# Altium integrated library Infineon_Power_Motor_Driver.IntLib: 100 symbols (part 1 of 7)
Pins are listed as number, name and electrical type; pins without a type are passive.

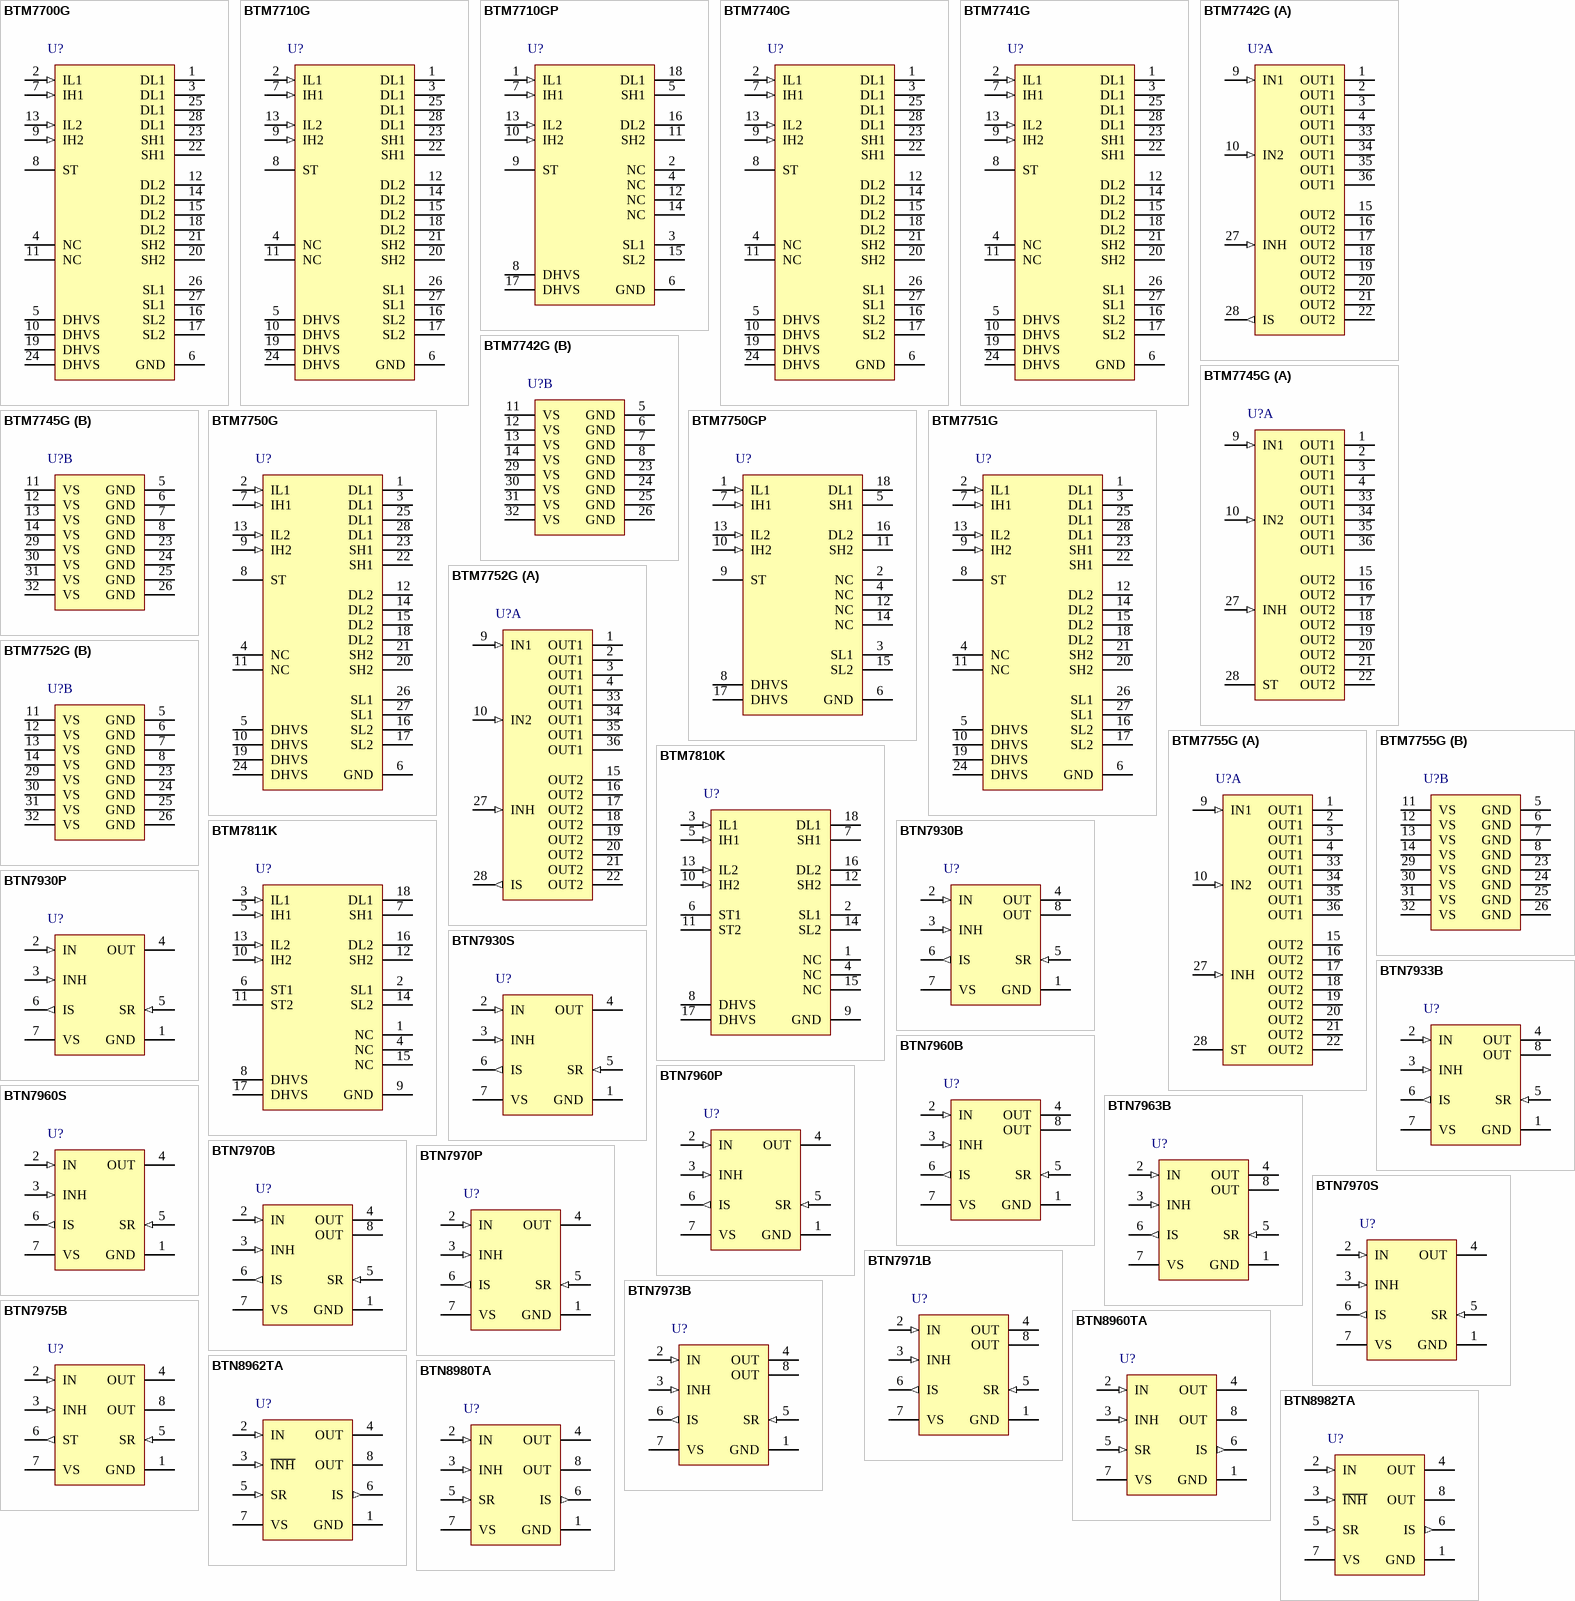
[diagram p0: symbols BTM7700G to BTN8982TA]

## BTM7700G
designator U?
TrilithIC, 4.8 to 42 V, -40 to 150 degC, PG-DSO-28-22, Reel, Green; Manufacturer: Infineon; PartNumber: BTM7700G; Green: TRUE; ID(lim): 9.5 A; ID(lim) (min): 5.5 A; Inhibit: FALSE; Iq (typ): 5 uA; Protect: OT, SC; RDS(on) (typ): 190 mOhm; VS (max): 42 V; DatasheetVersion: Rev. 1.0; PackageVersion: Jun-07; PackageReference: PG-DSO-28-22; PackageDescription: 28-Pin Plastic (Green) Dual Small Outline Package, 17.9 x 7.5 mm Body, 1.27 mm Pitch; Supplier 1: Mouser; Supplier Part Number 1: 726-BTM7700G; Supplier 2: Digi-Key; Supplier Part Number 2: BTM7700GTR-ND; Supplier 3: Digi-Key; Supplier Part Number 3: BTM7700GCT-ND; Supplier 4: Digi-Key; Supplier Part Number 4: BTM7700GDKR-ND; Group: TrilithIC; Halogen-free: TRUE; Operating Range: 4.8 to 42 V; Mounting Technology: Surface Mount; ComponentLink1Description: Manufacturer URL; ComponentLink1URL: http://www.infineon.com/; ComponentLink2Description: Datasheet; ComponentLink2URL: http://www.infineon.com/dgdl/BTM7700G_DS_10.pdf?folderId=db3a304412b407950112b408e8c90004&fileId=db3a304316f66ee80117642f65ef6a96&location=en.Products.Automotive_ICs.Motor_Drivers__Automotive_.Integrated_High_Current_Motor_Drivers__NovalithIC____Trilith_IC_.DATASHEET.BTM7700G_DS_10.pdf; ComponentLink3Description: Package Specification; ComponentLink3URL: http://www.infineon.com/dgdl/BTM7700G_DS_10.pdf?folderId=db3a304412b407950112b408e8c90004&fileId=db3a304316f66ee80117642f65ef6a96&sId=db3a30443d67b5ca013d81ef92182d8b
footprint INF-PG-DSO-28-22_N (SOP, 28-Leads, Body 17.9x7.5mm, Pitch 1.27mm, IPC Medium Density)
footprint INF-PG-DSO-28-22_L (SOP, 28-Leads, Body 17.9x7.5mm, Pitch 1.27mm, IPC High Density)
footprint INF-PG-DSO-28-22_M (SOP, 28-Leads, Body 17.9x7.5mm, Pitch 1.27mm, IPC Low Density)
pins: 1 DL1 (power) "Drain of low-side switch1, leadframe 1", 2 IL1 (in) "Analog input of low-side switch1", 3 DL1 (power) "Drain of low-side switch1, leadframe 1", 4 NC "not connected", 5 DHVS (power) "Drain of high-side switches and power supply voltage, leadframe 2", 6 GND (power) "Ground", 7 IH1 (in) "Digital input of high-side switch1", 8 ST (oc) "Status of high-side switches; open Drain output", 9 IH2 (in) "Digital input of high-side switch2", 10 DHVS (power) "Drain of high-side switches and power supply voltage, leadframe 2", 11 NC "not connected", 12 DL2 (power) "Drain of low-side switch2, leadframe 3", 13 IL2 (in) "Analog input of low-side switch2", 14 DL2 (power) "Drain of low-side switch2, leadframe 3", 15 DL2 (power) "Drain of low-side switch2, leadframe 3", 16 SL2 (power) "Source of low-side switch2", 17 SL2 (power) "Source of low-side switch2", 18 DL2 (power) "Drain of low-side switch2, leadframe 3", 19 DHVS (power) "Drain of high-side switches and power supply voltage, leadframe 2", 20 SH2 (power) "Source of high-side switch2", 21 SH2 (power) "Source of high-side switch2", 22 SH1 (power) "Source of high-side switch1", 23 SH1 (power) "Source of high-side switch1", 24 DHVS (power) "Drain of high-side switches and power supply voltage, leadframe 2", 25 DL1 (power) "Drain of low-side switch1, leadframe 1", 26 SL1 (power) "Source of low-side switch1", 27 SL1 (power) "Source of low-side switch1", 28 DL1 (power) "Drain of low-side switch1, leadframe 1"

## BTM7710G
designator U?
TrilithIC, 4.5 to 42 V, -40 to 150 degC, PG-DSO-28-22, Reel, Green; Manufacturer: Infineon; PartNumber: BTM7710G; Green: TRUE; ID(lim): 15 A; ID(lim) (min): 9 A; Inhibit: FALSE; Iq (typ): 5 uA; Protect: OT, SC; RDS(on) (typ): 110 mOhm; VS (max): 42 V; DatasheetVersion: Rev. 1.0; PackageVersion: Jun-07; PackageReference: PG-DSO-28-22; PackageDescription: 28-Pin Plastic (Green) Dual Small Outline Package, 17.9 x 7.5 mm Body, 1.27 mm Pitch; Supplier 1: Mouser; Supplier Part Number 1: 726-BTM7710G; Supplier 2: Newark; Supplier Part Number 2: 47W3369; Supplier 3: Farnell; Supplier Part Number 3: 2215537; Supplier 4: Digi-Key; Supplier Part Number 4: BTM7710GTR-ND; Supplier 5: Digi-Key; Supplier Part Number 5: BTM7710GCT-ND; Supplier 6: Digi-Key; Supplier Part Number 6: BTM7710GDKR-ND; Group: TrilithIC; Halogen-free: TRUE; Operating Range: 4.5 to 42 V; Mounting Technology: Surface Mount; ComponentLink1Description: Manufacturer URL; ComponentLink1URL: http://www.infineon.com/; ComponentLink2Description: Datasheet; ComponentLink2URL: http://www.infineon.com/dgdl/BTM7710G%5B1%5D.pdf?folderId=db3a3043156fd5730116144c5d101c30&fileId=db3a30431add1d95011aedf960bb0349&location=en.Products.Automotive_ICs.Motor_Drivers__Automotive_.Integrated_High_Current_Motor_Drivers__NovalithIC____Trilith_IC_.DATASHEET.BTM7710G[1].pdf; ComponentLink3Description: Package Specification; ComponentLink3URL: http://www.infineon.com/dgdl/BTM7700G_DS_10.pdf?folderId=db3a304412b407950112b408e8c90004&fileId=db3a304316f66ee80117642f65ef6a96&sId=db3a30443d67b5ca013d81ef92182d8b
footprint INF-PG-DSO-28-22_N (SOP, 28-Leads, Body 17.9x7.5mm, Pitch 1.27mm, IPC Medium Density)
footprint INF-PG-DSO-28-22_L (SOP, 28-Leads, Body 17.9x7.5mm, Pitch 1.27mm, IPC High Density)
footprint INF-PG-DSO-28-22_M (SOP, 28-Leads, Body 17.9x7.5mm, Pitch 1.27mm, IPC Low Density)
pins: 1 DL1 (power) "Drain of low-side switch1, leadframe 1", 2 IL1 (in) "Analog input of low-side switch1", 3 DL1 (power) "Drain of low-side switch1, leadframe 1", 4 NC "not connected", 5 DHVS (power) "Drain of high-side switches and power supply voltage, leadframe 2", 6 GND (power) "Ground", 7 IH1 (in) "Digital input of high-side switch1", 8 ST (oc) "Status of high-side switches; open Drain output", 9 IH2 (in) "Digital input of high-side switch2", 10 DHVS (power) "Drain of high-side switches and power supply voltage, leadframe 2", 11 NC "not connected", 12 DL2 (power) "Drain of low-side switch2, leadframe 3", 13 IL2 (in) "Analog input of low-side switch2", 14 DL2 (power) "Drain of low-side switch2, leadframe 3", 15 DL2 (power) "Drain of low-side switch2, leadframe 3", 16 SL2 (power) "Source of low-side switch2", 17 SL2 (power) "Source of low-side switch2", 18 DL2 (power) "Drain of low-side switch2, leadframe 3", 19 DHVS (power) "Drain of high-side switches and power supply voltage, leadframe 2", 20 SH2 (power) "Source of high-side switch2", 21 SH2 (power) "Source of high-side switch2", 22 SH1 (power) "Source of high-side switch1", 23 SH1 (power) "Source of high-side switch1", 24 DHVS (power) "Drain of high-side switches and power supply voltage, leadframe 2", 25 DL1 (power) "Drain of low-side switch1, leadframe 1", 26 SL1 (power) "Source of low-side switch1", 27 SL1 (power) "Source of low-side switch1", 28 DL1 (power) "Drain of low-side switch1, leadframe 1"

## BTM7710GP
designator U?
TrilithIC, 4.5 to 42 V, -40 to 110 degC, PG-TO263-15-1, Reel, Green; Manufacturer: Infineon; PartNumber: BTM7710GP; Green: TRUE; ID(lim): 15 A; Iq (typ): 5 uA; Protect: OT, Short circuit; RDS(on) (typ): 110 mOhm; VS (max): 42 V; DatasheetVersion: Rev. 1.0; PackageVersion: May-08; PackageReference: PG-TO263-15-1; PackageDescription: 15-Pin Plastic (Green) Transistor Single Outline Package, 21.6 x 9.25 mm Body, 1.4 mm Pitch; Supplier 1: Mouser; Supplier Part Number 1: 726-BTM7710GP; Supplier 2: Newark; Supplier Part Number 2: 47W3370; Supplier 3: Farnell; Supplier Part Number 3: 2215551; Supplier 4: Digi-Key; Supplier Part Number 4: BTM7710GPTR-ND; Supplier 5: Digi-Key; Supplier Part Number 5: BTM7710GPCT-ND; Supplier 6: Digi-Key; Supplier Part Number 6: BTM7710GPDKR-ND; Group: TrilithIC; Halogen-free: TRUE; Operating Range: 4.5 to 42 V; Mounting Technology: Surface Mount; ComponentLink1Description: Manufacturer URL; ComponentLink1URL: http://www.infineon.com/; ComponentLink2Description: Datasheet; ComponentLink2URL: http://www.infineon.com/dgdl/BTM7710GP_DS_10.pdf?folderId=db3a3043156fd5730116144c5d101c30&fileId=db3a30431ce5fb52011d2e5153631e92&location=en.Products.Automotive_ICs.Motor_Drivers__Automotive_.Integrated_High_Current_Motor_Drivers__NovalithIC____Trilith_IC_.DATASHEET.BTM7710GP_DS_10.pdf; ComponentLink3Description: Package Specification; ComponentLink3URL: http://www.infineon.com/dgdl/BTM7811K_DS_10.pdf?folderId=db3a3043156fd5730116144c5d101c30&fileId=db3a30431be39b97011bea1ad66c7ff6&sId=db3a30433d68e984013d7f42f8736279
footprint INF-PG-TO263-15-1_V (TO263, 15-Leads, Body 21.6x9.25mm, Pitch 1.4mm)
pins: 1 IL1 (in) "Analog input of low-side switch 1", 2 NC "Not connected", 3 SL1 (power) "Source of low-side switch 1", 4 NC "Not connected", 5 SH1 (power) "Source of high-side switch 1", 6 GND (power) "Ground of high-side switches", 7 IH1 (in) "Digital input of high-side switch 1", 8 DHVS (power) "Drain of high-side switches and power supply voltage", 9 ST (oc) "Status; open Drain output.", 10 IH2 (in) "Digital input of high-side switch 2", 11 SH2 (power) "Source of high-side switch 2", 12 NC "Not connected", 13 IL2 (in) "Analog input of low-side switch 2", 14 NC "Not connected", 15 SL2 (power) "Source of low-side switch 2", 16 DL2 (power) "Drain of low-side switch 2 Heat-Slug 3 or Heat-Disssipator.", 17 DHVS (power) "Drain of high-side switches and power supply voltage Heat-Slug 2 or Heat-Dissipator.", 18 DL1 (power) "Drain of low-side switch 1 Heat-Slug 1 or Heat-Dissipator"

## BTM7740G
designator U?
TrilithIC, 4.8 to 42 V, -40 to 150 degC, PG-DSO-28-22, Reel, Green; Manufacturer: Infineon; PartNumber: BTM7740G; Green: TRUE; ID(lim): 8 A; ID(lim) (min): 5 A; Inhibit: FALSE; Iq (typ): 5 uA; Protect: OT, SC; RDS(on) (typ): 210 mOhm; VS (max): 42 V; DatasheetVersion: Rev. 1.0; PackageVersion: Jun-07; PackageReference: PG-DSO-28-22; PackageDescription: 28-Pin Plastic (Green) Dual Small Outline Package, 17.9 x 7.5 mm Body, 1.27 mm Pitch; Supplier 1: Mouser; Supplier Part Number 1: 726-BTM7740G; Supplier 2: Newark; Supplier Part Number 2: 47W3371; Supplier 3: Farnell; Supplier Part Number 3: 2215544; Supplier 4: Digi-Key; Supplier Part Number 4: BTM7740GTR-ND; Supplier 5: Digi-Key; Supplier Part Number 5: BTM7740GCT-ND; Supplier 6: Digi-Key; Supplier Part Number 6: BTM7740GDKR-ND; Group: TrilithIC; Halogen-free: TRUE; Operating Range: 4.8 to 42 V; Mounting Technology: Surface Mount; ComponentLink1Description: Manufacturer URL; ComponentLink1URL: http://www.infineon.com/; ComponentLink2Description: Datasheet; ComponentLink2URL: http://www.infineon.com/dgdl/BTM7740G_DS_10.pdf?folderId=db3a3043156fd5730116144c5d101c30&fileId=db3a304316f66ee80117643262696aa3&location=en.Products.Automotive_ICs.Motor_Drivers__Automotive_.Integrated_High_Current_Motor_Drivers__NovalithIC____Trilith_IC_.DATASHEET.BTM7740G_DS_10.pdf; ComponentLink3Description: Package Specification; ComponentLink3URL: http://www.infineon.com/dgdl/BTM7700G_DS_10.pdf?folderId=db3a304412b407950112b408e8c90004&fileId=db3a304316f66ee80117642f65ef6a96&sId=db3a30443d67b5ca013d81ef92182d8b
footprint INF-PG-DSO-28-22_N (SOP, 28-Leads, Body 17.9x7.5mm, Pitch 1.27mm, IPC Medium Density)
footprint INF-PG-DSO-28-22_L (SOP, 28-Leads, Body 17.9x7.5mm, Pitch 1.27mm, IPC High Density)
footprint INF-PG-DSO-28-22_M (SOP, 28-Leads, Body 17.9x7.5mm, Pitch 1.27mm, IPC Low Density)
pins: 1 DL1 (power) "Drain of low-side switch1, leadframe 1", 2 IL1 (in) "Analog input of low-side switch1", 3 DL1 (power) "Drain of low-side switch1, leadframe 1", 4 NC "not connected", 5 DHVS (power) "Drain of high-side switches and power supply voltage, leadframe 2", 6 GND (power) "Ground", 7 IH1 (in) "Digital input of high-side switch1", 8 ST (oc) "Status of high-side switches; open Drain output", 9 IH2 (in) "Digital input of high-side switch2", 10 DHVS (power) "Drain of high-side switches and power supply voltage, leadframe 2", 11 NC "not connected", 12 DL2 (power) "Drain of low-side switch2, leadframe 3", 13 IL2 (in) "Analog input of low-side switch2", 14 DL2 (power) "Drain of low-side switch2, leadframe 3", 15 DL2 (power) "Drain of low-side switch2, leadframe 3", 16 SL2 (power) "Source of low-side switch2", 17 SL2 (power) "Source of low-side switch2", 18 DL2 (power) "Drain of low-side switch2, leadframe 3", 19 DHVS (power) "Drain of high-side switches and power supply voltage, leadframe 2", 20 SH2 (power) "Source of high-side switch2", 21 SH2 (power) "Source of high-side switch2", 22 SH1 (power) "Source of high-side switch1", 23 SH1 (power) "Source of high-side switch1", 24 DHVS (power) "Drain of high-side switches and power supply voltage, leadframe 2", 25 DL1 (power) "Drain of low-side switch1, leadframe 1", 26 SL1 (power) "Source of low-side switch1", 27 SL1 (power) "Source of low-side switch1", 28 DL1 (power) "Drain of low-side switch1, leadframe 1"

## BTM7741G
designator U?
TrilithIC, 4.8 to 42 V, -40 to 150 degC, PG-DSO-28-22, Reel, Green; Manufacturer: Infineon; PartNumber: BTM7741G; Green: TRUE; ID(lim): 10 A; ID(lim) (min): 6 A; Inhibit: FALSE; Iq (typ): 5 uA; Protect: OT, SC; RDS(on) (typ): 210 mOhm; VS (max): 42 V; DatasheetVersion: Rev. 1.0; PackageVersion: Jun-07; PackageReference: PG-DSO-28-22; PackageDescription: 28-Pin Plastic (Green) Dual Small Outline Package, 17.9 x 7.5 mm Body, 1.27 mm Pitch; Supplier 1: Mouser; Supplier Part Number 1: 726-BTM7741G; Supplier 2: Digi-Key; Supplier Part Number 2: BTM7741GTR-ND; Supplier 3: Digi-Key; Supplier Part Number 3: BTM7741GCT-ND; Supplier 4: Digi-Key; Supplier Part Number 4: BTM7741GDKR-ND; Group: TrilithIC; Halogen-free: TRUE; Operating Range: 4.8 to 42 V; Mounting Technology: Surface Mount; ComponentLink1Description: Manufacturer URL; ComponentLink1URL: http://www.infineon.com/; ComponentLink2Description: Datasheet; ComponentLink2URL: http://www.infineon.com/dgdl/BTM7741G_DS_10.pdf?folderId=db3a3043156fd5730116144c5d101c30&fileId=db3a30431be39b97011bea1404c77feb&location=en.Products.Automotive_ICs.Motor_Drivers__Automotive_.Integrated_High_Current_Motor_Drivers__NovalithIC____Trilith_IC_.DATASHEET.BTM7741G_DS_10.pdf; ComponentLink3Description: Package Specification; ComponentLink3URL: http://www.infineon.com/dgdl/BTM7700G_DS_10.pdf?folderId=db3a304412b407950112b408e8c90004&fileId=db3a304316f66ee80117642f65ef6a96&sId=db3a30443d67b5ca013d81ef92182d8b
footprint INF-PG-DSO-28-22_N (SOP, 28-Leads, Body 17.9x7.5mm, Pitch 1.27mm, IPC Medium Density)
footprint INF-PG-DSO-28-22_L (SOP, 28-Leads, Body 17.9x7.5mm, Pitch 1.27mm, IPC High Density)
footprint INF-PG-DSO-28-22_M (SOP, 28-Leads, Body 17.9x7.5mm, Pitch 1.27mm, IPC Low Density)
pins: 1 DL1 (power) "Drain of low-side switch1, leadframe 1", 2 IL1 (in) "Analog input of low-side switch1", 3 DL1 (power) "Drain of low-side switch1, leadframe 1", 4 NC "not connected", 5 DHVS (power) "Drain of high-side switches and power supply voltage, leadframe 2", 6 GND (power) "Ground", 7 IH1 (in) "Digital input of high-side switch1", 8 ST (oc) "Status of high-side switches; open Drain output", 9 IH2 (in) "Digital input of high-side switch2", 10 DHVS (power) "Drain of high-side switches and power supply voltage, leadframe 2", 11 NC "not connected", 12 DL2 (power) "Drain of low-side switch2, leadframe 3", 13 IL2 (in) "Analog input of low-side switch2", 14 DL2 (power) "Drain of low-side switch2, leadframe 3", 15 DL2 (power) "Drain of low-side switch2, leadframe 3", 16 SL2 (power) "Source of low-side switch2", 17 SL2 (power) "Source of low-side switch2", 18 DL2 (power) "Drain of low-side switch2, leadframe 3", 19 DHVS (power) "Drain of high-side switches and power supply voltage, leadframe 2", 20 SH2 (power) "Source of high-side switch2", 21 SH2 (power) "Source of high-side switch2", 22 SH1 (power) "Source of high-side switch1", 23 SH1 (power) "Source of high-side switch1", 24 DHVS (power) "Drain of high-side switches and power supply voltage, leadframe 2", 25 DL1 (power) "Drain of low-side switch1, leadframe 1", 26 SL1 (power) "Source of low-side switch1", 27 SL1 (power) "Source of low-side switch1", 28 DL1 (power) "Drain of low-side switch1, leadframe 1"

## BTM7742G
designator U?
High Current H-Bridge Trilith IC 3G, 5.5 to 28 V, -40 to 150 degC, PG-DSO-36-29, Reel, Green; Manufacturer: Infineon; PartNumber: BTM7742G; Green: TRUE; ID(lim): 12 A; ID(lim) (min): 6 A; Iq (typ): 5 uA; Protect: OV, UV, OT, OC; RDS(on) (typ): 250 mOhm; VS (max): 45 V; DatasheetVersion: Rev. 1.0; PackageVersion: May-10; PackageReference: PG-DSO-36-29; PackageDescription: 36-Pin Plastic (Green) Dual Small Outline Package, 12.7 x 7.5 mm Body, 0.65 mm Pitch; Supplier 1: Mouser; Supplier Part Number 1: 726-BTM7742G; Supplier 2: Digi-Key; Supplier Part Number 2: BTM7742G-ND; Group: TrilithIC; Halogen-free: TRUE; Inhibit: TRUE; Operating Range: 5.5 to 28 V; Mounting Technology: Surface Mount; ComponentLink1Description: Manufacturer URL; ComponentLink1URL: http://www.infineon.com/; ComponentLink2Description: Datasheet; ComponentLink2URL: http://www.infineon.com/dgdl/BTM7742G_DS_10.pdf?folderId=db3a3043156fd5730116144c5d101c30&fileId=db3a30432f69f146012f78654c2d2e97&location=en.Products.Automotive_ICs.Motor_Drivers__Automotive_.Integrated_High_Current_Motor_Drivers__NovalithIC____Trilith_IC_.DATASHEET.BTM7742G_DS_10.pdf; ComponentLink3Description: Package Specification; ComponentLink3URL: http://www.infineon.com/dgdl/BTM7752G-Data-Sheet-20.pdf?folderId=db3a3043156fd5730116144c5d101c30&fileId=db3a30432e1525b3012e24c6ed042357&sId=db3a30433d68e984013d7f683b5c74f9
footprint INF-PG-DSO-36-29_N (SOP, 36-Leads, Body 12.7x7.5mm, Pitch 0.65mm, IPC Medium Density)
footprint INF-PG-DSO-36-29_L (SOP, 36-Leads, Body 12.7x7.5mm, Pitch 0.65mm, IPC High Density)
footprint INF-PG-DSO-36-29_M (SOP, 36-Leads, Body 12.7x7.5mm, Pitch 0.65mm, IPC Low Density)
part A pins: 1 OUT1 (power) "Output of first half bridge", 2 OUT1 (power) "Output of first half bridge", 3 OUT1 (power) "Output of first half bridge", 4 OUT1 (power) "Output of first half bridge", 9 IN1 (in) "Input of first half bridge", 10 IN2 (in) "Input of second half bridge", 15 OUT2 (power) "Output of second half bridge", 16 OUT2 (power) "Output of second half bridge", 17 OUT2 (power) "Output of second half bridge", 18 OUT2 (power) "Output of second half bridge", 19 OUT2 (power) "Output of second half bridge", 20 OUT2 (power) "Output of second half bridge", 21 OUT2 (power) "Output of second half bridge", 22 OUT2 (power) "Output of second half bridge", 27 INH (in) "Inhibit pin, to set device in sleep/stand-by mode", 28 IS (out) "Current sense and error signal", 33 OUT1 (power) "Output of first half bridge", 34 OUT1 (power) "Output of first half bridge", 35 OUT1 (power) "Output of first half bridge", 36 OUT1 (power) "Output of first half bridge"
part B pins: 5 GND (power) "Ground", 6 GND (power) "Ground", 7 GND (power) "Ground", 8 GND (power) "Ground", 11 VS (power) "Supply, all pins to be connected and shorted externally", 12 VS (power) "Supply, all pins to be connected and shorted externally", 13 VS (power) "Supply, all pins to be connected and shorted externally", 14 VS (power) "Supply, all pins to be connected and shorted externally", 23 GND (power) "Ground", 24 GND (power) "Ground", 25 GND (power) "Ground", 26 GND (power) "Ground", 29 VS (power) "Supply, all pins to be connected and shorted externally", 30 VS (power) "Supply, all pins to be connected and shorted externally", 31 VS (power) "Supply, all pins to be connected and shorted externally", 32 VS (power) "Supply, all pins to be connected and shorted externally"

## BTM7745G
designator U?
High Current H-Bridge Trilith IC 3G, 5.5 to 28 V, -40 to 150 degC, PG-DSO-36-29, Reel, Green; Manufacturer: Infineon; PartNumber: BTM7745G; Green: TRUE; ID(lim): 12 A; ID(lim) (min): 6 A; Iq (typ): 5 uA; Protect: OV, UV, OT, OC; RDS(on) (typ): 250 mOhm; VS (max): 45 V; DatasheetVersion: Rev. 1.0; PackageVersion: May-10; PackageReference: PG-DSO-36-29; PackageDescription: 36-Pin Plastic (Green) Dual Small Outline Package, 12.7 x 7.5 mm Body, 0.65 mm Pitch; Supplier 1: Mouser; Supplier Part Number 1: 726-BTM7745G; Supplier 2: Digi-Key; Supplier Part Number 2: BTM7745G-ND; Group: TrilithIC; Halogen-free: TRUE; Inhibit: TRUE; Operating Range: 5.5 to 28 V; Mounting Technology: Surface Mount; ComponentLink1Description: Manufacturer URL; ComponentLink1URL: http://www.infineon.com/; ComponentLink2Description: Datasheet; ComponentLink2URL: http://www.infineon.com/dgdl/BTM7745G_DS_10.pdf?folderId=db3a3043156fd5730116144c5d101c30&fileId=db3a30432f69f146012f786bb37f2ea7&location=en.Products.Automotive_ICs.Motor_Drivers__Automotive_.Integrated_High_Current_Motor_Drivers__NovalithIC____Trilith_IC_.DATASHEET.BTM7745G_DS_10.pdf; ComponentLink3Description: Package Specification; ComponentLink3URL: http://www.infineon.com/dgdl/BTM7752G-Data-Sheet-20.pdf?folderId=db3a3043156fd5730116144c5d101c30&fileId=db3a30432e1525b3012e24c6ed042357&sId=db3a30433d68e984013d7f683b5c74f9
footprint INF-PG-DSO-36-29_N (SOP, 36-Leads, Body 12.7x7.5mm, Pitch 0.65mm, IPC Medium Density)
footprint INF-PG-DSO-36-29_L (SOP, 36-Leads, Body 12.7x7.5mm, Pitch 0.65mm, IPC High Density)
footprint INF-PG-DSO-36-29_M (SOP, 36-Leads, Body 12.7x7.5mm, Pitch 0.65mm, IPC Low Density)
part A pins: 1 OUT1 (power) "Output of first half bridge", 2 OUT1 (power) "Output of first half bridge", 3 OUT1 (power) "Output of first half bridge", 4 OUT1 (power) "Output of first half bridge", 9 IN1 (in) "Input of first half bridge", 10 IN2 (in) "Input of second half bridge", 15 OUT2 (power) "Output of second half bridge", 16 OUT2 (power) "Output of second half bridge", 17 OUT2 (power) "Output of second half bridge", 18 OUT2 (power) "Output of second half bridge", 19 OUT2 (power) "Output of second half bridge", 20 OUT2 (power) "Output of second half bridge", 21 OUT2 (power) "Output of second half bridge", 22 OUT2 (power) "Output of second half bridge", 27 INH (in) "Inhibit pin, to set device in sleep/stand-by mode", 28 ST (oc) "Status signal, open drain output", 33 OUT1 (power) "Output of first half bridge", 34 OUT1 (power) "Output of first half bridge", 35 OUT1 (power) "Output of first half bridge", 36 OUT1 (power) "Output of first half bridge"
part B pins: 5 GND (power) "Ground", 6 GND (power) "Ground", 7 GND (power) "Ground", 8 GND (power) "Ground", 11 VS (power) "Supply, all pins to be connected and shorted externally", 12 VS (power) "Supply, all pins to be connected and shorted externally", 13 VS (power) "Supply, all pins to be connected and shorted externally", 14 VS (power) "Supply, all pins to be connected and shorted externally", 23 GND (power) "Ground", 24 GND (power) "Ground", 25 GND (power) "Ground", 26 GND (power) "Ground", 29 VS (power) "Supply, all pins to be connected and shorted externally", 30 VS (power) "Supply, all pins to be connected and shorted externally", 31 VS (power) "Supply, all pins to be connected and shorted externally", 32 VS (power) "Supply, all pins to be connected and shorted externally"

## BTM7750G
designator U?
TrilithIC, 4.8 to 42 V, -40 to 150 degC, PG-DSO-28-22, Reel, Green; Manufacturer: Infineon; PartNumber: BTM7750G; Green: TRUE; ID(lim): 12 A; ID(lim) (min): 7 A; Inhibit: FALSE; Iq (typ): 5 uA; Protect: OT, SC; RDS(on) (typ): 115 mOhm; VS (max): 42 V; DatasheetVersion: Rev. 1.0; PackageVersion: Jun-07; PackageReference: PG-DSO-28-22; PackageDescription: 28-Pin Plastic (Green) Dual Small Outline Package, 17.9 x 7.5 mm Body, 1.27 mm Pitch; Supplier 1: Mouser; Supplier Part Number 1: 726-BTM7750G; Supplier 2: Newark; Supplier Part Number 2: 47W3372; Supplier 3: Farnell; Supplier Part Number 3: 2215534; Supplier 4: Digi-Key; Supplier Part Number 4: BTM7750GTR-ND; Supplier 5: Digi-Key; Supplier Part Number 5: BTM7750GCT-ND; Supplier 6: Digi-Key; Supplier Part Number 6: BTM7750GDKR-ND; Group: TrilithIC; Halogen-free: TRUE; Operating Range: 4.8 to 42 V; Mounting Technology: Surface Mount; ComponentLink1Description: Manufacturer URL; ComponentLink1URL: http://www.infineon.com/; ComponentLink2Description: Datasheet; ComponentLink2URL: http://www.infineon.com/dgdl/BTM7750G_DS_10.pdf?folderId=db3a3043156fd5730116144c5d101c30&fileId=db3a304316f66ee80117644e21d86ab0&location=en.Products.Automotive_ICs.Motor_Drivers__Automotive_.Integrated_High_Current_Motor_Drivers__NovalithIC____Trilith_IC_.DATASHEET.BTM7750G_DS_10.pdf; ComponentLink3Description: Package Specification; ComponentLink3URL: http://www.infineon.com/dgdl/BTM7700G_DS_10.pdf?folderId=db3a304412b407950112b408e8c90004&fileId=db3a304316f66ee80117642f65ef6a96&sId=db3a30443d67b5ca013d81ef92182d8b
footprint INF-PG-DSO-28-22_N (SOP, 28-Leads, Body 17.9x7.5mm, Pitch 1.27mm, IPC Medium Density)
footprint INF-PG-DSO-28-22_L (SOP, 28-Leads, Body 17.9x7.5mm, Pitch 1.27mm, IPC High Density)
footprint INF-PG-DSO-28-22_M (SOP, 28-Leads, Body 17.9x7.5mm, Pitch 1.27mm, IPC Low Density)
pins: 1 DL1 (power) "Drain of low-side switch1, leadframe 1", 2 IL1 (in) "Analog input of low-side switch1", 3 DL1 (power) "Drain of low-side switch1, leadframe 1", 4 NC "not connected", 5 DHVS (power) "Drain of high-side switches and power supply voltage, leadframe 2", 6 GND (power) "Ground", 7 IH1 (in) "Digital input of high-side switch1", 8 ST (oc) "Status of high-side switches; open Drain output", 9 IH2 (in) "Digital input of high-side switch2", 10 DHVS (power) "Drain of high-side switches and power supply voltage, leadframe 2", 11 NC "not connected", 12 DL2 (power) "Drain of low-side switch2, leadframe 3", 13 IL2 (in) "Analog input of low-side switch2", 14 DL2 (power) "Drain of low-side switch2, leadframe 3", 15 DL2 (power) "Drain of low-side switch2, leadframe 3", 16 SL2 (power) "Source of low-side switch2", 17 SL2 (power) "Source of low-side switch2", 18 DL2 (power) "Drain of low-side switch2, leadframe 3", 19 DHVS (power) "Drain of high-side switches and power supply voltage, leadframe 2", 20 SH2 (power) "Source of high-side switch2", 21 SH2 (power) "Source of high-side switch2", 22 SH1 (power) "Source of high-side switch1", 23 SH1 (power) "Source of high-side switch1", 24 DHVS (power) "Drain of high-side switches and power supply voltage, leadframe 2", 25 DL1 (power) "Drain of low-side switch1, leadframe 1", 26 SL1 (power) "Source of low-side switch1", 27 SL1 (power) "Source of low-side switch1", 28 DL1 (power) "Drain of low-side switch1, leadframe 1"

## BTM7750GP
designator U?
TrilithIC, 4.5 to 42 V, -40 to 110 degC, P-TO263-15-1, Reel, Green; Manufacturer: Infineon; PartNumber: BTM7750GP; Green: TRUE; ID(lim): 12 A; ID(lim) (min): 8 A; Inhibit: FALSE; Iq (typ): 5 uA; Protect: OT, SC; RDS(on) (typ): 115 mOhm; VS (max): 42 V; DatasheetVersion: Rev. 1.0; PackageVersion: Mar-03; PackageReference: P-TO263-15-1; PackageDescription: 15-Pin Plastic Transistor Single Outline Package, 21.6 x 9.25 mm Body, 1.4 mm Pitch; Supplier 1: Mouser; Supplier Part Number 1: 726-BTM7750GP; Supplier 2: Newark; Supplier Part Number 2: 47W3373; Supplier 3: Farnell; Supplier Part Number 3: 2215538; Supplier 4: Digi-Key; Supplier Part Number 4: BTM7750GPTR-ND; Supplier 5: Digi-Key; Supplier Part Number 5: BTM7750GPCT-ND; Supplier 6: Digi-Key; Supplier Part Number 6: BTM7750GPDKR-ND; Group: TrilithIC; Halogen-free: TRUE; Operating Range: 4.5 to 42 V; Mounting Technology: Surface Mount; ComponentLink1Description: Manufacturer URL; ComponentLink1URL: http://www.infineon.com/; ComponentLink2Description: Datasheet; ComponentLink2URL: http://www.infineon.com/dgdl/BTM7750GP_DS_10.pdf?folderId=db3a3043156fd5730116144c5d101c30&fileId=db3a30431ce5fb52011d4dc8b8cc2e43&location=en.Products.Automotive_ICs.Motor_Drivers__Automotive_.Integrated_High_Current_Motor_Drivers__NovalithIC____Trilith_IC_.DATASHEET.BTM7750GP_DS_10.pdf; ComponentLink3Description: Package Specification; ComponentLink3URL: http://www.infineon.com/dgdl/BTS7810K_11-03-2003.pdf?folderId=db3a304412b407950112b439834a6e16&fileId=db3a304412b407950112b43983d56e17&sId=db3a30433db1c06a013db463a2ae1455
footprint INF-P-TO263-15-1_V (TO263, 15-Leads, Body 21.6x9.25mm, Pitch 1.4mm)
pins: 1 IL1 (in) "Analog input of low-side switch 1", 2 NC "Not connected", 3 SL1 (power) "Source of low-side switch 1", 4 NC "Not connected", 5 SH1 (power) "Source of high-side switch 1", 6 GND (power) "Ground of high-side switches", 7 IH1 (in) "Digital input of high-side switch 1", 8 DHVS (power) "Drain of high-side switches and power supply voltage", 9 ST (oc) "Status; open Drain output.", 10 IH2 (in) "Digital input of high-side switch 2", 11 SH2 (power) "Source of high-side switch 2", 12 NC "Not connected", 13 IL2 (in) "Analog input of low-side switch 2", 14 NC "Not connected", 15 SL2 (power) "Source of low-side switch 2", 16 DL2 (power) "Drain of low-side switch 2 Heat-Slug 3 or Heat-Disssipator.", 17 DHVS (power) "Drain of high-side switches and power supply voltage Heat-Slug 2 or Heat-Dissipator.", 18 DL1 (power) "Drain of low-side switch 1 Heat-Slug 1 or Heat-Dissipator"

## BTM7751G
designator U?
TrilithIC, 4.8 to 42 V, -40 to 150 degC, PG-DSO-28-22, Reel, Green; Manufacturer: Infineon; PartNumber: BTM7751G; Green: TRUE; ID(lim): 14 A; ID(lim) (min): 8 A; Inhibit: FALSE; Iq (typ): 5 uA; Protect: OT, SC; RDS(on) (typ): 125 mOhm; VS (max): 42 V; DatasheetVersion: Rev. 1.0; PackageVersion: Jun-07; PackageReference: PG-DSO-28-22; PackageDescription: 28-Pin Plastic (Green) Dual Small Outline Package, 17.9 x 7.5 mm Body, 1.27 mm Pitch; Supplier 1: Mouser; Supplier Part Number 1: 726-BTM7751G; Supplier 2: Newark; Supplier Part Number 2: 47W3374; Supplier 3: Farnell; Supplier Part Number 3: 2215535; Supplier 4: Digi-Key; Supplier Part Number 4: BTM7751GTR-ND; Supplier 5: Digi-Key; Supplier Part Number 5: BTM7751GCT-ND; Supplier 6: Digi-Key; Supplier Part Number 6: BTM7751GDKR-ND; Group: TrilithIC; Halogen-free: TRUE; Operating Range: 4.8 to 42 V; Mounting Technology: Surface Mount; ComponentLink1Description: Manufacturer URL; ComponentLink1URL: http://www.infineon.com/; ComponentLink2Description: Datasheet; ComponentLink2URL: http://www.infineon.com/dgdl/BTM7751G_DS_10.pdf?folderId=db3a3043156fd5730116144c5d101c30&fileId=db3a30431be39b97011bea19d1f07ff3&location=en.Products.Automotive_ICs.Motor_Drivers__Automotive_.Integrated_High_Current_Motor_Drivers__NovalithIC____Trilith_IC_.DATASHEET.BTM7751G_DS_10.pdf; ComponentLink3Description: Package Specification; ComponentLink3URL: http://www.infineon.com/dgdl/BTM7700G_DS_10.pdf?folderId=db3a304412b407950112b408e8c90004&fileId=db3a304316f66ee80117642f65ef6a96&sId=db3a30443d67b5ca013d81ef92182d8b
footprint INF-PG-DSO-28-22_N (SOP, 28-Leads, Body 17.9x7.5mm, Pitch 1.27mm, IPC Medium Density)
footprint INF-PG-DSO-28-22_L (SOP, 28-Leads, Body 17.9x7.5mm, Pitch 1.27mm, IPC High Density)
footprint INF-PG-DSO-28-22_M (SOP, 28-Leads, Body 17.9x7.5mm, Pitch 1.27mm, IPC Low Density)
pins: 1 DL1 (power) "Drain of low-side switch1, leadframe 1", 2 IL1 (in) "Analog input of low-side switch1", 3 DL1 (power) "Drain of low-side switch1, leadframe 1", 4 NC "not connected", 5 DHVS (power) "Drain of high-side switches and power supply voltage, leadframe 2", 6 GND (power) "Ground", 7 IH1 (in) "Digital input of high-side switch1", 8 ST (oc) "Status of high-side switches; open Drain output", 9 IH2 (in) "Digital input of high-side switch2", 10 DHVS (power) "Drain of high-side switches and power supply voltage, leadframe 2", 11 NC "not connected", 12 DL2 (power) "Drain of low-side switch2, leadframe 3", 13 IL2 (in) "Analog input of low-side switch2", 14 DL2 (power) "Drain of low-side switch2, leadframe 3", 15 DL2 (power) "Drain of low-side switch2, leadframe 3", 16 SL2 (power) "Source of low-side switch2", 17 SL2 (power) "Source of low-side switch2", 18 DL2 (power) "Drain of low-side switch2, leadframe 3", 19 DHVS (power) "Drain of high-side switches and power supply voltage, leadframe 2", 20 SH2 (power) "Source of high-side switch2", 21 SH2 (power) "Source of high-side switch2", 22 SH1 (power) "Source of high-side switch1", 23 SH1 (power) "Source of high-side switch1", 24 DHVS (power) "Drain of high-side switches and power supply voltage, leadframe 2", 25 DL1 (power) "Drain of low-side switch1, leadframe 1", 26 SL1 (power) "Source of low-side switch1", 27 SL1 (power) "Source of low-side switch1", 28 DL1 (power) "Drain of low-side switch1, leadframe 1"

## BTM7752G
designator U?
High Current H-Bridge Trilith IC 3G, 5.5 to 28 V, -40 to 150 degC, PG-DSO-36-29, Reel, Green; Manufacturer: Infineon; PartNumber: BTM7752G; Green: TRUE; ID(lim): 12 A; ID(lim) (min): 8 A; Iq (typ): 5 uA; Protect: OV, UV, OT, OC; RDS(on) (typ): 150 mOhm; VS (max): 45 V; DatasheetVersion: Rev. 2.0; PackageVersion: May-10; PackageReference: PG-DSO-36-29; PackageDescription: 36-Pin Plastic (Green) Dual Small Outline Package, 12.7 x 7.5 mm Body, 0.65 mm Pitch; Supplier 1: Mouser; Supplier Part Number 1: 726-BTM7752G; Supplier 2: Newark; Supplier Part Number 2: 47W3375; Supplier 3: Farnell; Supplier Part Number 3: 2215539; Supplier 4: Digi-Key; Supplier Part Number 4: BTM7752GTR-ND; Supplier 5: Digi-Key; Supplier Part Number 5: BTM7752GCT-ND; Supplier 6: Digi-Key; Supplier Part Number 6: BTM7752GDKR-ND; Group: TrilithIC; Halogen-free: TRUE; Inhibit: TRUE; Operating Range: 5.5 to 28 V; Mounting Technology: Surface Mount; ComponentLink1Description: Manufacturer URL; ComponentLink1URL: http://www.infineon.com/; ComponentLink2Description: Datasheet; ComponentLink2URL: http://www.infineon.com/dgdl/BTM7752G-Data-Sheet-20.pdf?folderId=db3a3043156fd5730116144c5d101c30&fileId=db3a30432e1525b3012e24c6ed042357&location=en.Products.Automotive_ICs.Motor_Drivers__Automotive_.Integrated_High_Current_Motor_Drivers__NovalithIC____Trilith_IC_.DATASHEET.BTM7752G-Data-Sheet-20.pdf; ComponentLink3Description: Package Specification; ComponentLink3URL: http://www.infineon.com/dgdl/BTM7752G-Data-Sheet-20.pdf?folderId=db3a3043156fd5730116144c5d101c30&fileId=db3a30432e1525b3012e24c6ed042357&sId=db3a30433d68e984013d7f683b5c74f9
footprint INF-PG-DSO-36-29_N (SOP, 36-Leads, Body 12.7x7.5mm, Pitch 0.65mm, IPC Medium Density)
footprint INF-PG-DSO-36-29_L (SOP, 36-Leads, Body 12.7x7.5mm, Pitch 0.65mm, IPC High Density)
footprint INF-PG-DSO-36-29_M (SOP, 36-Leads, Body 12.7x7.5mm, Pitch 0.65mm, IPC Low Density)
part A pins: 1 OUT1 (power) "Output of first half bridge", 2 OUT1 (power) "Output of first half bridge", 3 OUT1 (power) "Output of first half bridge", 4 OUT1 (power) "Output of first half bridge", 9 IN1 (in) "Input of first half bridge", 10 IN2 (in) "Input of second half bridge", 15 OUT2 (power) "Output of second half bridge", 16 OUT2 (power) "Output of second half bridge", 17 OUT2 (power) "Output of second half bridge", 18 OUT2 (power) "Output of second half bridge", 19 OUT2 (power) "Output of second half bridge", 20 OUT2 (power) "Output of second half bridge", 21 OUT2 (power) "Output of second half bridge", 22 OUT2 (power) "Output of second half bridge", 27 INH (in) "Inhibit pin, to set device in sleep/stand-by mode", 28 IS (out) "Current sense and error signal", 33 OUT1 (power) "Output of first half bridge", 34 OUT1 (power) "Output of first half bridge", 35 OUT1 (power) "Output of first half bridge", 36 OUT1 (power) "Output of first half bridge"
part B pins: 5 GND (power) "Ground", 6 GND (power) "Ground", 7 GND (power) "Ground", 8 GND (power) "Ground", 11 VS (power) "Supply, all pins to be connected and shorted externally", 12 VS (power) "Supply, all pins to be connected and shorted externally", 13 VS (power) "Supply, all pins to be connected and shorted externally", 14 VS (power) "Supply, all pins to be connected and shorted externally", 23 GND (power) "Ground", 24 GND (power) "Ground", 25 GND (power) "Ground", 26 GND (power) "Ground", 29 VS (power) "Supply, all pins to be connected and shorted externally", 30 VS (power) "Supply, all pins to be connected and shorted externally", 31 VS (power) "Supply, all pins to be connected and shorted externally", 32 VS (power) "Supply, all pins to be connected and shorted externally"

## BTM7755G
designator U?
High Current H-Bridge Trilith IC 3G, 5.5 to 28 V, -40 to 150 degC, PG-DSO-36-29, Reel, Green; Manufacturer: Infineon; PartNumber: BTM7755G; Green: TRUE; ID(lim): 12 A; ID(lim) (min): 8 A; Iq (typ): 5 uA; Protect: OV, UV, OT, OC; RDS(on) (typ): 150 mOhm; VS (max): 45 V; DatasheetVersion: Rev. 2.0; PackageVersion: May-10; PackageReference: PG-DSO-36-29; PackageDescription: 36-Pin Plastic (Green) Dual Small Outline Package, 12.7 x 7.5 mm Body, 0.65 mm Pitch; Supplier 1: Mouser; Supplier Part Number 1: 726-BTM7755G; Supplier 2: Digi-Key; Supplier Part Number 2: BTM7755G-ND; Group: TrilithIC; Halogen-free: TRUE; Inhibit: TRUE; Operating Range: 5.5 to 28 V; Mounting Technology: Surface Mount; ComponentLink1Description: Manufacturer URL; ComponentLink1URL: http://www.infineon.com/; ComponentLink2Description: Datasheet; ComponentLink2URL: http://www.infineon.com/dgdl/BTM7755G-Data-Sheet-20.pdf?folderId=db3a3043156fd5730116144c5d101c30&fileId=db3a30432e1525b3012e24dd6d0d2371&location=en.Products.Automotive_ICs.Motor_Drivers__Automotive_.Integrated_High_Current_Motor_Drivers__NovalithIC____Trilith_IC_.DATASHEET.BTM7755G-Data-Sheet-20.pdf; ComponentLink3Description: Package Specification; ComponentLink3URL: http://www.infineon.com/dgdl/BTM7752G-Data-Sheet-20.pdf?folderId=db3a3043156fd5730116144c5d101c30&fileId=db3a30432e1525b3012e24c6ed042357&sId=db3a30433d68e984013d7f683b5c74f9
footprint INF-PG-DSO-36-29_N (SOP, 36-Leads, Body 12.7x7.5mm, Pitch 0.65mm, IPC Medium Density)
footprint INF-PG-DSO-36-29_L (SOP, 36-Leads, Body 12.7x7.5mm, Pitch 0.65mm, IPC High Density)
footprint INF-PG-DSO-36-29_M (SOP, 36-Leads, Body 12.7x7.5mm, Pitch 0.65mm, IPC Low Density)
part A pins: 1 OUT1 (power) "Output of first half bridge", 2 OUT1 (power) "Output of first half bridge", 3 OUT1 (power) "Output of first half bridge", 4 OUT1 (power) "Output of first half bridge", 9 IN1 (in) "Input of first half bridge", 10 IN2 (in) "Input of second half bridge", 15 OUT2 (power) "Output of second half bridge", 16 OUT2 (power) "Output of second half bridge", 17 OUT2 (power) "Output of second half bridge", 18 OUT2 (power) "Output of second half bridge", 19 OUT2 (power) "Output of second half bridge", 20 OUT2 (power) "Output of second half bridge", 21 OUT2 (power) "Output of second half bridge", 22 OUT2 (power) "Output of second half bridge", 27 INH (in) "Inhibit pin, to set device in sleep/stand-by mode", 28 ST (oc) "Status signal, open drain output", 33 OUT1 (power) "Output of first half bridge", 34 OUT1 (power) "Output of first half bridge", 35 OUT1 (power) "Output of first half bridge", 36 OUT1 (power) "Output of first half bridge"
part B pins: 5 GND (power) "Ground", 6 GND (power) "Ground", 7 GND (power) "Ground", 8 GND (power) "Ground", 11 VS (power) "Supply, all pins to be connected and shorted externally", 12 VS (power) "Supply, all pins to be connected and shorted externally", 13 VS (power) "Supply, all pins to be connected and shorted externally", 14 VS (power) "Supply, all pins to be connected and shorted externally", 23 GND (power) "Ground", 24 GND (power) "Ground", 25 GND (power) "Ground", 26 GND (power) "Ground", 29 VS (power) "Supply, all pins to be connected and shorted externally", 30 VS (power) "Supply, all pins to be connected and shorted externally", 31 VS (power) "Supply, all pins to be connected and shorted externally", 32 VS (power) "Supply, all pins to be connected and shorted externally"

## BTM7810K
designator U?
TrilithIC, 5 to 42 V, -40 to 110 degC, PG-TO263-15-1, Reel, Green; Manufacturer: Infineon; PartNumber: BTM7810K; Green: TRUE; ID(lim): 42 A; ID(lim) (min): 27 A; Inhibit: FALSE; Iq (typ): 4 uA; Operating Range: 5 to 42 V; Protect: OT, SC; RDS(on) (typ): 40 mOhm; VS (max): 42 V; DatasheetVersion: Rev. 1.0; PackageVersion: May-08; PackageReference: PG-TO263-15-1; PackageDescription: 15-Pin Plastic (Green) Transistor Single Outline Package, 21.6 x 9.25 mm Body, 1.4 mm Pitch; Supplier 1: Mouser; Supplier Part Number 1: 726-BTM7810K; Supplier 2: Newark; Supplier Part Number 2: 47W3376; Supplier 3: Farnell; Supplier Part Number 3: 2215533; Supplier 4: Digi-Key; Supplier Part Number 4: BTM7810KTR-ND; Supplier 5: Digi-Key; Supplier Part Number 5: BTM7810KCT-ND; Supplier 6: Digi-Key; Supplier Part Number 6: BTM7810KDKR-ND; Group: TrilithIC; Halogen-free: TRUE; Mounting Technology: Surface Mount; ComponentLink1Description: Manufacturer URL; ComponentLink1URL: http://www.infineon.com/; ComponentLink2Description: Datasheet; ComponentLink2URL: http://www.infineon.com/dgdl/BTM7810K_DS_10.pdf?folderId=db3a3043156fd5730116144c5d101c30&fileId=db3a30431be39b97011bea18e9217fee&location=en.Products.Automotive_ICs.Motor_Drivers__Automotive_.Integrated_High_Current_Motor_Drivers__NovalithIC____Trilith_IC_.DATASHEET.BTM7810K_DS_10.pdf; ComponentLink3Description: Package Specification; ComponentLink3URL: http://www.infineon.com/dgdl/BTM7811K_DS_10.pdf?folderId=db3a3043156fd5730116144c5d101c30&fileId=db3a30431be39b97011bea1ad66c7ff6&sId=db3a30433d68e984013d7f42f8736279
footprint INF-PG-TO263-15-1_V (TO263, 15-Leads, Body 21.6x9.25mm, Pitch 1.4mm)
pins: 1 NC "Not connected", 2 SL1 (power) "Source of low-side switch 1", 3 IL1 (in) "Analog input of low-side switch 1", 4 NC "Not connected", 5 IH1 (in) "Digital input of high-side switch 1", 6 ST1 (oc) "Status of high-side switch 1; open Drain output", 7 SH1 (power) "Source of high-side switch 1", 8 DHVS (power) "Drain of high-side switches and power supply voltage", 9 GND (power) "Ground of high-side switches", 10 IH2 (in) "Digital input of high-side switch 2", 11 ST2 (oc) "Status of high-side switch 2; open Drain output", 12 SH2 (power) "Source of high-side switch 2", 13 IL2 (in) "Analog input of low-side switch 2", 14 SL2 (power) "Source of low-side switch 2", 15 NC "Not connected", 16 DL2 (power) "Drain of low-side switch 2 Heat-Slug 3", 17 DHVS (power) "Drain of high-side switches and power supply voltage Heat-Slug 2", 18 DL1 (power) "Drain of low-side switch 1 Heat-Slug 1"

## BTM7811K
designator U?
TrilithIC, 5 to 42 V, -40 to 110 degC, PG-TO263-15-1, Reel, Green; Manufacturer: Infineon; PartNumber: BTM7811K; Green: TRUE; ID(lim): 42 A; ID(lim) (min): 27 A; Inhibit: FALSE; Iq (typ): 4 uA; Operating Range: 5 to 42 V; Protect: OT, SC; RDS(on) (typ): 40 mOhm; VS (max): 42 V; DatasheetVersion: Rev. 1.0; PackageVersion: May-08; PackageReference: PG-TO263-15-1; PackageDescription: 15-Pin Plastic (Green) Transistor Single Outline Package, 21.6 x 9.25 mm Body, 1.4 mm Pitch; Supplier 1: Newark; Supplier Part Number 1: 47W3377; Supplier 2: Farnell; Supplier Part Number 2: 2215531; Supplier 3: Digi-Key; Supplier Part Number 3: BTM7811KTR-ND; Supplier 4: Digi-Key; Supplier Part Number 4: BTM7811KCT-ND; Supplier 5: Digi-Key; Supplier Part Number 5: BTM7811KDKR-ND; Group: TrilithIC; Halogen-free: TRUE; Mounting Technology: Surface Mount; ComponentLink1Description: Manufacturer URL; ComponentLink1URL: http://www.infineon.com/; ComponentLink2Description: Datasheet; ComponentLink2URL: http://www.infineon.com/dgdl/BTM7811K_DS_10.pdf?folderId=db3a3043156fd5730116144c5d101c30&fileId=db3a30431be39b97011bea1ad66c7ff6&location=en.Products.Automotive_ICs.Motor_Drivers__Automotive_.Integrated_High_Current_Motor_Drivers__NovalithIC____Trilith_IC_.DATASHEET.BTM7811K_DS_10.pdf; ComponentLink3Description: Package Specification; ComponentLink3URL: http://www.infineon.com/dgdl/BTM7811K_DS_10.pdf?folderId=db3a3043156fd5730116144c5d101c30&fileId=db3a30431be39b97011bea1ad66c7ff6&sId=db3a30433d68e984013d7f42f8736279
footprint INF-PG-TO263-15-1_V (TO263, 15-Leads, Body 21.6x9.25mm, Pitch 1.4mm)
pins: 1 NC "Not connected", 2 SL1 (power) "Source of low-side switch 1", 3 IL1 (in) "Analog input of low-side switch 1", 4 NC "Not connected", 5 IH1 (in) "Digital input of high-side switch 1", 6 ST1 (oc) "Status of high-side switch 1; open Drain output", 7 SH1 (power) "Source of high-side switch 1", 8 DHVS (power) "Drain of high-side switches and power supply voltage", 9 GND (power) "Ground of high-side switches", 10 IH2 (in) "Digital input of high-side switch 2", 11 ST2 (oc) "Status of high-side switch 2; open Drain output", 12 SH2 (power) "Source of high-side switch 2", 13 IL2 (in) "Analog input of low-side switch 2", 14 SL2 (power) "Source of low-side switch 2", 15 NC "Not connected", 16 DL2 (power) "Drain of low-side switch 2 Heat-Slug 3", 17 DHVS (power) "Drain of high-side switches and power supply voltage Heat-Slug 2", 18 DL1 (power) "Drain of low-side switch 1 Heat-Slug 1"

## BTN7930B
designator U?
High Current PN Half Bridge NovalithIC, 5.5 to 28 V, -40 to 150 degC, PG-TO263-7-1, Reel, Green; Manufacturer: Infineon; PartNumber: BTN7930B; Green: TRUE; ID(lim): 32 A; ID(lim) (min): 20 A; Iq (typ): 7 uA; Protect: OV, UV, OT, OC; RDS(on) (typ): 28 mOhm; VS (max): 45 V; DatasheetVersion: Rev. 1.1; PackageVersion: May-07; PackageReference: PG-TO263-7-1; PackageDescription: 7-Pin Plastic (Green) Transistor Single Outline Package, 9.25 x 10 mm Body, 1.27 mm Pitch; Supplier 1: Mouser; Supplier Part Number 1: 726-BTN7930B; Supplier 2: Newark; Supplier Part Number 2: 47W3378; Supplier 3: Farnell; Supplier Part Number 3: 2215530; Supplier 4: Digi-Key; Supplier Part Number 4: BTN7930BINTR-ND; Supplier 5: Digi-Key; Supplier Part Number 5: BTN7930BINCT-ND; Supplier 6: Digi-Key; Supplier Part Number 6: BTN7930BINDKR-ND; Group: NovalithIC; Halogen-free: TRUE; Inhibit: TRUE; Operating Range: 5.5 to 28 V; Mounting Technology: Surface Mount; ComponentLink1Description: Manufacturer URL; ComponentLink1URL: http://www.infineon.com/; ComponentLink2Description: Datasheet; ComponentLink2URL: http://www.infineon.com/dgdl/BTN7930_DS_11.pdf?folderId=db3a3043156fd5730116144c5d101c30&fileId=db3a304316f66ee80117641dba046a6e&location=en.Products.Automotive_ICs.Motor_Drivers__Automotive_.Integrated_High_Current_Motor_Drivers__NovalithIC____Trilith_IC_.DATASHEET.BTN7930_DS_11.pdf; ComponentLink3Description: Package Specification; ComponentLink3URL: http://www.infineon.com/dgdl/TLE5205-2_DS_11%5B1%5D.pdf?folderId=db3a30431b3e89eb011bb632994f065b&fileId=db3a30431f848401011fc747c7a0797f&sId=db3a30433d68e984013d7d43135b5b6a
footprint INF-PG-TO263-7-1_N (DPAK, 8-Leads, Body 10x9.25mm, Pitch 1.27mm, IPC Medium Density)
footprint INF-PG-TO263-7-1_L (DPAK, 8-Leads, Body 10x9.25mm, Pitch 1.27mm, IPC High Density)
footprint INF-PG-TO263-7-1_M (DPAK, 8-Leads, Body 10x9.25mm, Pitch 1.27mm, IPC Low Density)
pins: 1 GND (power) "Ground", 2 IN (in) "Input Defines whether high- or lowside switch is activated", 3 INH (in) "Inhibit When set to low device goes in sleep mode", 4 OUT (power) "Power output of the bridge", 5 SR (in) "Slew Rate The slew rate of the power switches can be adjusted by connecting a resistor between SR and GND", 6 IS (out) "Current Sense and Diagnostics", 7 VS (power) "Supply", 8 OUT (power) "Power output of the bridge"

## BTN7930P
designator U?
High Current PN Half Bridge NovalithIC, 5.5 to 28 V, -40 to 150 degC, PG-TO220-7-11, Tube, Green; Manufacturer: Infineon; PartNumber: BTN7930P; Green: TRUE; ID(lim): 32 A; ID(lim) (min): 20 A; Iq (typ): 7 uA; Protect: OV, UV, OT, OC; RDS(on) (typ): 29.2 mOhm; VS (max): 45 V; DatasheetVersion: Rev. 1.1; PackageVersion: Jul-07; PackageReference: PG-TO220-7-11; PackageDescription: 7-Pin Plastic (Green) Transistor Single Outline Package, 10 x 9.25 mm Body, 1.27 mm Pitch; Supplier 1: Mouser; Supplier Part Number 1: 726-BTN7930P; Supplier 2: Digi-Key; Supplier Part Number 2: BTN7930P-ND; Group: NovalithIC; Halogen-free: TRUE; Inhibit: TRUE; Operating Range: 5.5 to 28 V; Mounting Technology: Through Hole; ComponentLink1Description: Manufacturer URL; ComponentLink1URL: http://www.infineon.com/; ComponentLink2Description: Datasheet; ComponentLink2URL: http://www.infineon.com/dgdl/BTN7930_DS_11.pdf?folderId=db3a3043156fd5730116144c5d101c30&fileId=db3a304316f66ee80117641dba046a6e&location=en.Products.Automotive_ICs.Motor_Drivers__Automotive_.Integrated_High_Current_Motor_Drivers__NovalithIC____Trilith_IC_.DATASHEET.BTN7930_DS_11.pdf; ComponentLink3Description: Package Specification; ComponentLink3URL: http://www.infineon.com/dgdl/TLE5205-2_DS_11%5B1%5D.pdf?folderId=db3a30431b3e89eb011bb632994f065b&fileId=db3a30431f848401011fc747c7a0797f&sId=db3a30433d68e984013d7d43135b5b6a
footprint INF-PG-TO220-7-11 (FM, 7-Leads, Body 10x9.25mm, Pitch 1.27mm)
pins: 1 GND (power) "Ground", 2 IN (in) "Input Defines whether high- or lowside switch is activated", 3 INH (in) "Inhibit When set to low device goes in sleep mode", 4 OUT (power) "Power output of the bridge", 5 SR (in) "Slew Rate The slew rate of the power switches can be adjusted by connecting a resistor between SR and GND", 6 IS (out) "Current Sense and Diagnostics", 7 VS (power) "Supply"